# Altium footprint library ARM_Libary_EURO.PcbLib: 112 footprints (part 5 of 7)
Each footprint in its own frame and in the unit in brackets; x right, y up, seen from the top. Pads: shape width x height; smd on the part's side, far side on the other; paste and mask are expansions set on the pad; w line width, h text height; cw(c..) or ccw(c..) is an arc to the next point about the centre after c.
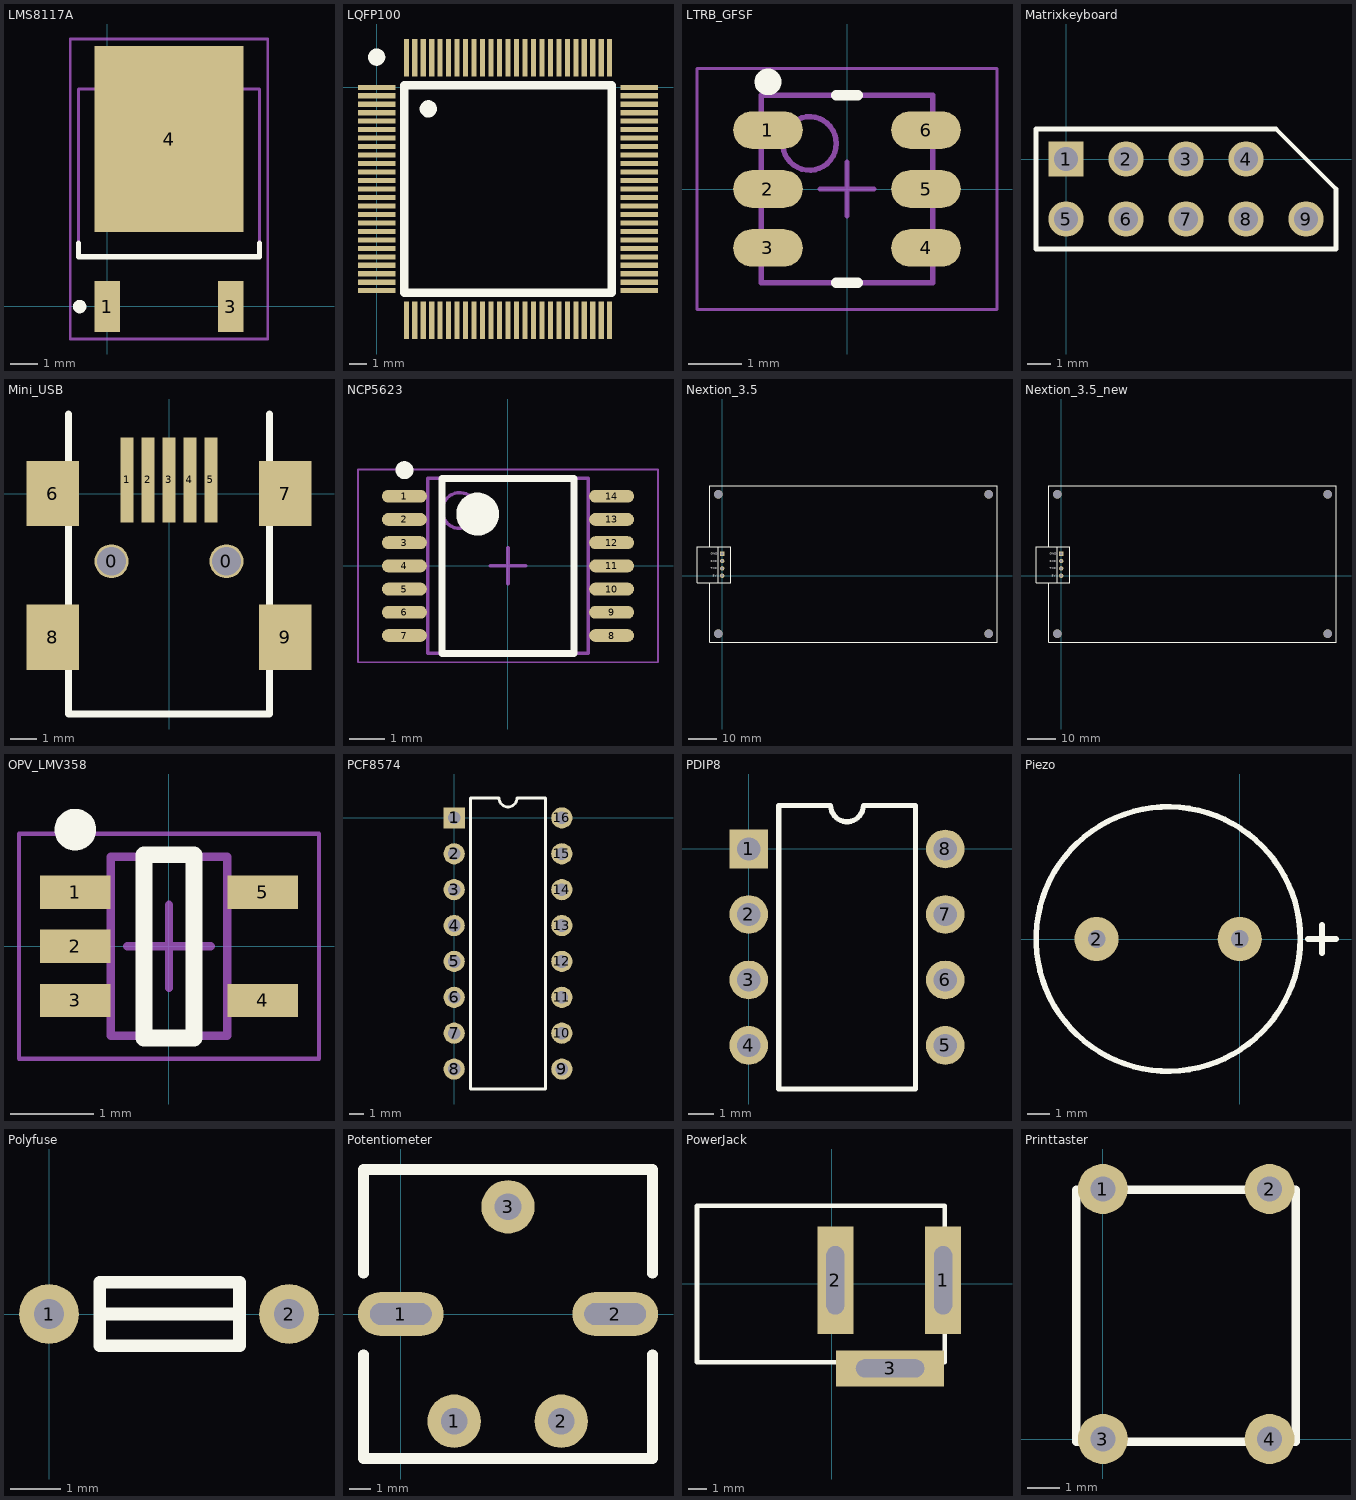
[diagram p4: the footprints below, top view; thin cyan lines are the x and y axes]

## LMS8117A [mm] "3.3V Fixspannungsregler"
pads (3):
  rect 0.95x1.9 smd: 1(-0.002,-0.007) 3(4.558,-0.007)
  rect 5.5x6.9 smd: 4(2.278,6.193)
Top Overlay:
  circle w0.25: c-1.027,-0.007 r0.125
  lines w0.2: -1.072,2.343 -1.072,1.843 5.628,1.843 5.628,2.343
Mechanical 13:
  lines w0.1: -1.072,1.843 -1.072,8.043 5.628,8.043 5.628,1.843 -1.072,1.843
Mechanical 15:
  lines w0.1: 1.778,4.343 2.778,4.343 ; 2.278,3.843 2.278,4.843 ; -1.372,-1.207 -1.372,9.893 5.928,9.893 5.928,-1.207 -1.372,-1.207
3D body: height 2.38, standoff 0, extent -1.071,1.844 5.628,8.043

## LQFP100 [mm]
pads (100):
  rect 2.2x0.3 smd: 1(0,0) 2(0,-0.5) 3(0,-1) 4(0,-1.5) 5(0,-2) 6(0,-2.5) 7(0,-3) 8(0,-3.5) 9(0,-4) 10(0,-4.5) 11(0,-5) 12(0,-5.5) 13(0,-6) 14(0,-6.5) 15(0,-7) 16(0,-7.5) 17(0,-8) 18(0,-8.5) 19(0,-9) 20(0,-9.5) 21(0,-10) 22(0,-10.5) 23(0,-11) 24(0,-11.5) 25(0,-12) 51(15.5,-12) 52(15.5,-11.5) 53(15.5,-11) 54(15.5,-10.5) 55(15.5,-10) 56(15.5,-9.5) 57(15.5,-9) 58(15.5,-8.5) 59(15.5,-8) 60(15.5,-7.5) 61(15.5,-7) 62(15.5,-6.5) 63(15.5,-6) 64(15.5,-5.5) 65(15.5,-5) 66(15.5,-4.5) 67(15.5,-4) 68(15.5,-3.5) 69(15.5,-3) 70(15.5,-2.5) 71(15.5,-2) 72(15.5,-1.5) 73(15.5,-1) 74(15.5,-0.5) 75(15.5,0)
  rect 0.3x2.2 smd: 26(1.75,-13.75) 27(2.25,-13.75) 28(2.75,-13.75) 29(3.25,-13.75) 30(3.75,-13.75) 31(4.25,-13.75) 32(4.75,-13.75) 33(5.25,-13.75) 34(5.75,-13.75) 35(6.25,-13.75) 36(6.75,-13.75) 37(7.25,-13.75) 38(7.75,-13.75) 39(8.25,-13.75) 40(8.75,-13.75) 41(9.25,-13.75) 42(9.75,-13.75) 43(10.25,-13.75) 44(10.75,-13.75) 45(11.25,-13.75) 46(11.75,-13.75) 47(12.25,-13.75) 48(12.75,-13.75) 49(13.25,-13.75) 50(13.75,-13.75) 76(13.75,1.75) 77(13.25,1.75) 78(12.75,1.75) 79(12.25,1.75) 80(11.75,1.75) 81(11.25,1.75) 82(10.75,1.75) 83(10.25,1.75) 84(9.75,1.75) 85(9.25,1.75) 86(8.75,1.75) 87(8.25,1.75) 88(7.75,1.75) 89(7.25,1.75) 90(6.75,1.75) 91(6.25,1.75) 92(5.75,1.75) 93(5.25,1.75) 94(4.75,1.75) 95(4.25,1.75) 96(3.75,1.75) 97(3.25,1.75) 98(2.75,1.75) 99(2.25,1.75) 100(1.75,1.75)
Top Overlay:
  circle w0.508: c3.048,-1.27 r0.254
  circle w0.508: c0,1.778 r0.254
  lines w0.508: 1.635,-12.115 13.865,-12.115 13.865,0.115 1.635,0.115 1.635,-12.115

## LTRB_GFSF [mm] "SOJ, 6-Leads, Body 3,50x4,25mm, Pitch 1,10mm, IPC Low Density"
height 2
pads (6):
  oval 1.3x0.7 smd: 1(-1.475,1.1) 2(-1.475,0) 3(-1.475,-1.1) 4(1.475,-1.1) 5(1.475,0) 6(1.475,1.1)
Top Overlay:
  circle w0.25: c-1.475,2 r0.125
  lines w0.2: -0.2,-1.75 0.2,-1.75 ; -0.2,1.75 0.2,1.75
Mechanical 13:
  circle w0.1: c-0.7,0.85 r0.5
  lines w0.1: -1.6,-1.75 -1.6,1.75 1.6,1.75 1.6,-1.75 -1.6,-1.75
Mechanical 15:
  lines w0.05: -2.8,-2.25 -2.8,2.25 2.8,2.25 2.8,-2.25 -2.8,-2.25
  lines w0.1: -0.5,0 0.5,0 ; 0,-0.5 0,0.5
3D body: height 2, standoff 0.15, extent -1.6,-1.75 1.6,1.75

## Matrixkeyboard [mm]
pads (9):
  rect 1.5x1.5 hole 1.016: 1(0,0)
  round 1.5 hole 1.016: 2(2.54,0) 3(5.08,0) 4(7.62,0) 5(0,-2.54) 6(2.54,-2.54) 7(5.08,-2.54) 8(7.62,-2.54) 9(10.16,-2.54)
Top Overlay:
  lines w0.2: -1.27,-3.81 11.43,-3.81 11.43,-1.27 8.89,1.27 -1.27,1.27 -1.27,-3.81

## Mini_USB [mm]
pads (11):
  round 1.3 hole 1.1: 0(-2.2,-2.59) 0(2.2,-2.59)
  rect 0.5x3.25 smd: 1(-1.6,0.525) 2(-0.8,0.525) 3(0,0.525) 4(0.8,0.525) 5(1.6,0.525)
  rect 2x2.5 smd: 6(-4.45,0) 7(4.45,0) 8(-4.45,-5.5) 9(4.45,-5.5)
Top Overlay:
  lines w0.254: -3.85,3.048 -3.85,-8.44 3.85,-8.44 3.85,3.048

## NCP5623 [mm] "TSOP, 14-Leads, Body 5,00x4,40mm, Pitch 0,65mm, IPC Medium Density"
height 1.2
pads (14):
  oval 1.26x0.36 smd: 1(-2.9,1.95) 2(-2.9,1.3) 3(-2.9,0.65) 4(-2.9,0) 5(-2.9,-0.65) 6(-2.9,-1.3) 7(-2.9,-1.95) 8(2.9,-1.95) 9(2.9,-1.3) 10(2.9,-0.65) 11(2.9,0) 12(2.9,0.65) 13(2.9,1.3) 14(2.9,1.95)
Top Overlay:
  circle w0.25: c-2.9,2.68 r0.125
  circle w0.6: c-0.85,1.45 r0.3
  lines w0.2: -1.85,-2.45 -1.85,2.45 1.85,2.45 1.85,-2.45 -1.85,-2.45
Mechanical 13:
  circle w0.1: c-1.35,1.55 r0.5
  lines w0.1: -2.25,-2.45 -2.25,2.45 2.25,2.45 2.25,-2.45 -2.25,-2.45
Mechanical 15:
  lines w0.05: -4.2,-2.7 -4.2,2.7 4.2,2.7 4.2,-2.7 -4.2,-2.7
  lines w0.1: -0.5,0 0.5,0 ; 0,-0.5 0,0.5
3D body: height 1.2, standoff 0.15, extent -2.25,-2.45 2.25,2.45

## Nextion_3.5 [mm]
pads (8):
  rect 1.5x1.5 hole 1.016: 1(0,7.62)
  round 1.5 hole 1.016: 2(0,5.08) 3(0,2.54) 4(0,0)
  round 3 hole 3: ""(-1.348,-20.216) ""(-1.348,28.334) ""(92.752,-20.216) ""(92.752,28.334)
Top Overlay:
  lines w0.2: -8.763,-1.27 -8.763,8.89 ; -8.763,7.62 -8.763,-2.413 ; -4.248,-2.413 -4.248,-23.216 95.652,-23.216 95.652,30.784 95.652,31.334 92.752,31.334 -4.248,31.334 -4.248,10.033 ; -2.159,10.033 -8.763,10.033 -8.763,-2.413 ; -8.763,-2.413 -1.397,-2.413 ; -1.397,-2.413 2.921,-2.413 2.921,10.033 -1.016,10.033 -2.286,10.033 -1.397,10.033 -1.397,-2.413
  text "GND" at -4.064,7.239 h0.8
  text "TXD" at -4.064,2.159 h0.8
  text "RXD" at -4.064,4.699 h0.8
  text "5V" at -3.302,-0.381 h0.8

## Nextion_3.5_new [mm]
pads (8):
  rect 1.5x1.5 hole 1.016: 1(0,7.62)
  round 1.5 hole 1.016: 2(0,5.08) 3(0,2.54) 4(0,0)
  round 3 hole 3: ""(-1.348,-20.216) ""(-1.348,28.334) ""(92.752,-20.216) ""(92.752,28.334)
Top Overlay:
  lines w0.2: -8.763,-1.27 -8.763,8.89 ; -8.763,7.62 -8.763,-2.413 ; -4.248,-2.413 -4.248,-23.216 95.652,-23.216 95.652,30.784 95.652,31.334 92.752,31.334 -4.248,31.334 -4.248,10.033 ; -2.159,10.033 -8.763,10.033 -8.763,-2.413 ; -8.763,-2.413 -1.397,-2.413 ; -1.397,-2.413 -1.397,10.033 -2.286,10.033 -1.016,10.033 2.921,10.033 2.921,-2.413 -1.397,-2.413
  text "5V" at -3.302,-0.381 h0.8
  text "RXD" at -4.064,4.699 h0.8
  text "TXD" at -4.064,2.159 h0.8
  text "GND" at -4.064,7.239 h0.8

## OPV_LMV358 [mm] "SOT23, 5-Leads, Body 1,86x2,10mm, Pitch 0,65mm, IPC Medium Density"
height 1.1
pads (5):
  rect 0.85x0.4 smd: 1(-1.125,0.65) 2(-1.125,0) 3(-1.125,-0.65) 4(1.125,-0.65) 5(1.125,0.65)
Top Overlay:
  circle w0.25: c-1.125,1.4 r0.125
  lines w0.2: -0.3,-1.1 -0.3,1.1 0.3,1.1 0.3,-1.1 -0.3,-1.1
Mechanical 13:
  lines w0.1: -0.7,-1.075 0.7,-1.075 0.7,1.075 -0.7,1.075 -0.7,-1.075
Mechanical 15:
  lines w0.05: -1.8,-1.35 1.8,-1.35 1.8,1.35 -1.8,1.35 -1.8,-1.35
  lines w0.1: -0.5,0 0.5,0 ; 0,-0.5 0,0.5
3D body: height 1.1, standoff 0.1, extent -0.7,-1.075 0.7,1.075

## PCF8574 [mm] "I2C Portextender"
pads (16):
  rect 1.5x1.5 hole 0.9: 1(0,0)
  round 1.5 hole 0.9: 2(0,-2.54) 3(0,-5.08) 4(0,-7.62) 5(0,-10.16) 6(0,-12.7) 7(0,-15.24) 8(0,-17.78) 9(7.62,-17.78) 10(7.62,-15.24) 11(7.62,-12.7) 12(7.62,-10.16) 13(7.62,-7.62) 14(7.62,-5.08) 15(7.62,-2.54) 16(7.62,0)
Top Overlay:
  lines w0.2: 1.16,-19.19 1.16,1.41 3.175,1.41 ccw(c3.81,1.41) 4.445,1.41 6.46,1.41 6.46,-19.19 1.16,-19.19

## PDIP8 [mm] "EEPROM"
pads (8):
  rect 1.5x1.5 hole 0.9: 1(0,0)
  round 1.5 hole 0.9: 2(0,-2.54) 3(0,-5.08) 4(0,-7.62) 5(7.62,-7.62) 6(7.62,-5.08) 7(7.62,-2.54) 8(7.62,0)
Top Overlay:
  lines w0.2: 1.16,-9.31 6.46,-9.31 6.46,1.69 4.445,1.69 cw(c3.81,1.69) 3.175,1.69 1.16,1.69 1.16,-9.31

## Piezo [mm]
pads (2):
  round 2 hole 0.8: 1(0,0) 2(-6.5,0)
Top Overlay:
  circle w0.254: c-3.25,0 r6
  lines w0.254: 3.1,0 4.37,0 ; 3.735,-0.635 3.735,0.635

## Polyfuse [mm]
pads (2):
  round 1.2 hole 0.6: 1(0,0) 2(4.8,0)
Top Overlay:
  lines w0.254: 1.016,0 3.81,0 ; 1.016,-0.635 1.016,0.635 3.81,0.635 3.81,-0.635 1.016,-0.635

## Potentiometer [mil] "Potentiometer"
pads (5):
  oval 157.48x80 hole 40 slot 113.19 at 0 deg: 1(0,0) 2(394,0)
  round 98.03 hole 49: 1(98,-197) 2(295,-197) 3(197,197)
Top Overlay:
  lines w20: -68.9,-75 -68.9,-265.75 462.6,-265.75 462.6,-75 ; -68.9,75 -68.9,265.75 344.49,265.75 462.6,265.75 462.6,75

## PowerJack [mm]
height 2.54
pads (3):
  rect 2x6 hole 1 slot 3.8 at 90 deg: 1(6.2,0.2) 2(0.2,0.2)
  rect 6x2 hole 1 slot 3.8 at 0 deg: 3(3.25,-4.7)
Top Overlay:
  lines w0.254: 1.05,-4.35 -7.5,-4.35 -7.5,0 -7.5,4.35 6.3,4.35 6.3,2.25 ; 5.55,-4.35 6.3,-4.35 6.3,-2.25

## Printtaster [mil] "Printtaster - 4polig"
pads (4):
  round 60 hole 30: 1(0,300) 2(200,300) 3(0,0) 4(200,0)
Top Overlay:
  lines w10: -32,-3.5 -32,299 231.5,299 231.5,-3.5 -32,-3.5